# EAGLE library part ZICM2410 (library GW-devices)
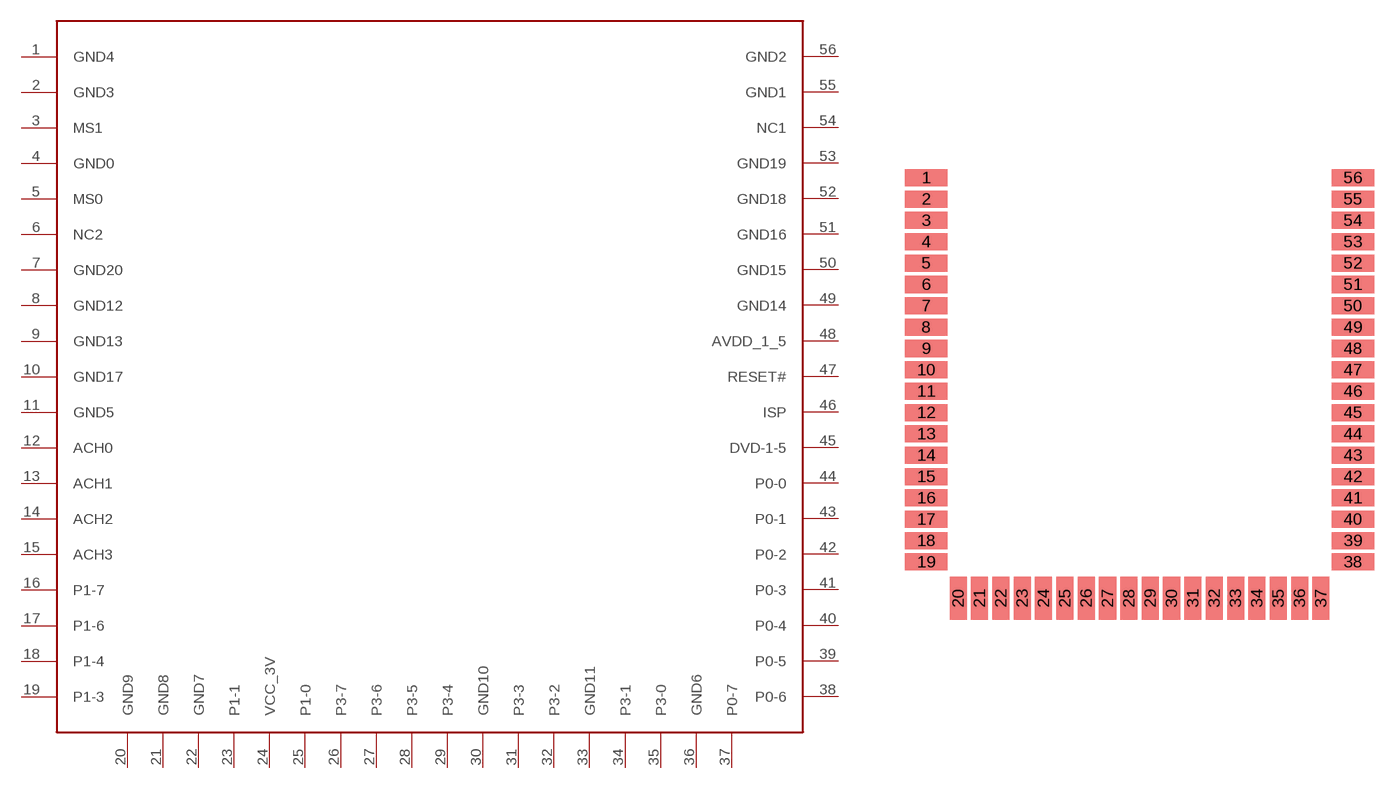
[diagram p35: symbol with the pads of ZICM2410; footprint ZICM2410]

Designator prefix -

## ZICM2410  [ZICM2410]
1  GND4
2  GND3
3  MS1
4  GND0
5  MS0
6  NC2
7  GND20
8  GND12
9  GND13
10  GND17
11  GND5
12  ACH0
13  ACH1
14  ACH2
15  ACH3
16  P1-7
17  P1-6
18  P1-4
19  P1-3
20  GND9
21  GND8
22  GND7
23  P1-1
24  VCC_3V
25  P1-0
26  P3-7
27  P3-6
28  P3-5
29  P3-4
30  GND10
31  P3-3
32  P3-2
33  GND11
34  P3-1
35  P3-0
36  GND6
37  P0-7
38  P0-6
39  P0-5
40  P0-4
41  P0-3
42  P0-2
43  P0-1
44  P0-0
45  DVD-1-5
46  ISP
47  RESET#
48  AVDD_1_5
49  GND14
50  GND15
51  GND16
52  GND18
53  GND19
54  NC1
55  GND1
56  GND2

## Footprint ZICM2410 (pad centres in mm)
smd 2.54 x 1.016: 1 -12.7,10.922; 2 -12.7,9.652; 3 -12.7,8.382; 4 -12.7,7.112; 5 -12.7,5.842; 6 -12.7,4.572; 7 -12.7,3.302; 8 -12.7,2.032; 9 -12.7,0.762; 10 -12.7,-0.508; 11 -12.7,-1.778; 12 -12.7,-3.048; 13 -12.7,-4.318; 14 -12.7,-5.588; 15 -12.7,-6.858; 16 -12.7,-8.128; 17 -12.7,-9.398; 18 -12.7,-10.668; 19 -12.7,-11.938; 38 12.7,-11.938; 39 12.7,-10.668; 40 12.7,-9.398; 41 12.7,-8.128; 42 12.7,-6.858; 43 12.7,-5.588; 44 12.7,-4.318; 45 12.7,-3.048; 46 12.7,-1.778; 47 12.7,-0.508; 48 12.7,0.762; 49 12.7,2.032; 50 12.7,3.302; 51 12.7,4.572; 52 12.7,5.842; 53 12.7,7.112; 54 12.7,8.382; 55 12.7,9.652; 56 12.7,10.922
smd 1.016 x 2.54: 20 -10.795,-14.097; 21 -9.525,-14.097; 22 -8.255,-14.097; 23 -6.985,-14.097; 24 -5.715,-14.097; 25 -4.445,-14.097; 26 -3.175,-14.097; 27 -1.905,-14.097; 28 -0.635,-14.097; 29 0.635,-14.097; 30 1.905,-14.097; 31 3.175,-14.097; 32 4.445,-14.097; 33 5.715,-14.097; 34 6.985,-14.097; 35 8.255,-14.097; 36 9.525,-14.097; 37 10.795,-14.097